# EAGLE library part LTC2875 (library borkedlabs-transceivers)
3.3V/5V CAN Transceiver
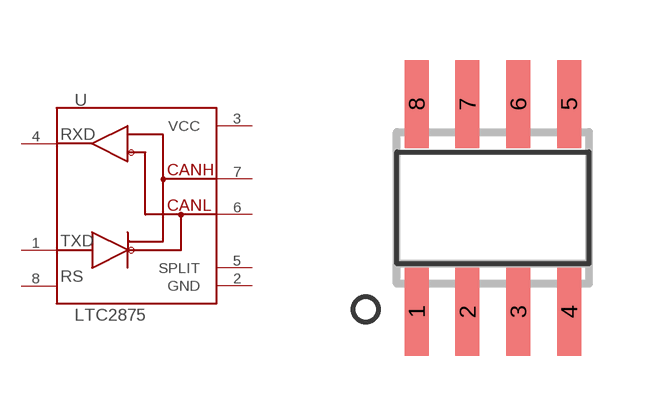
[diagram p3: symbol with the pads of SO-08; footprint SO-08]

Designator prefix U

## LTC2875XS  [SO-08]
1  TXD
2  GND
3  VCC
4  RXD
5  SPLIT
6  CANL
7  CANH
8  RS1

## Footprint SO-08 (pad centres in mm)
D (R-PDSO-G8) Plastic Small Outline Package Source: http://focus.ti.com/lit/ds/symlink/sn65als176.pdf
smd 0.6 x 2.2: 1 -1.905,-2.6; 2 -0.635,-2.6; 3 0.635,-2.6; 4 1.905,-2.6; 5 1.905,2.6; 6 0.635,2.6; 7 -0.635,2.6; 8 -1.905,2.6